# Altium footprint library PCB - RF FILTER - JOHANSON BP15 4PAD.PCBLIB: 1 footprints
Each footprint in its own frame and in the unit in brackets; x right, y up, seen from the top. Pads: shape width x height; smd on the part's side, far side on the other; paste and mask are expansions set on the pad; w line width, h text height; cw(c..) or ccw(c..) is an arc to the next point about the centre after c.
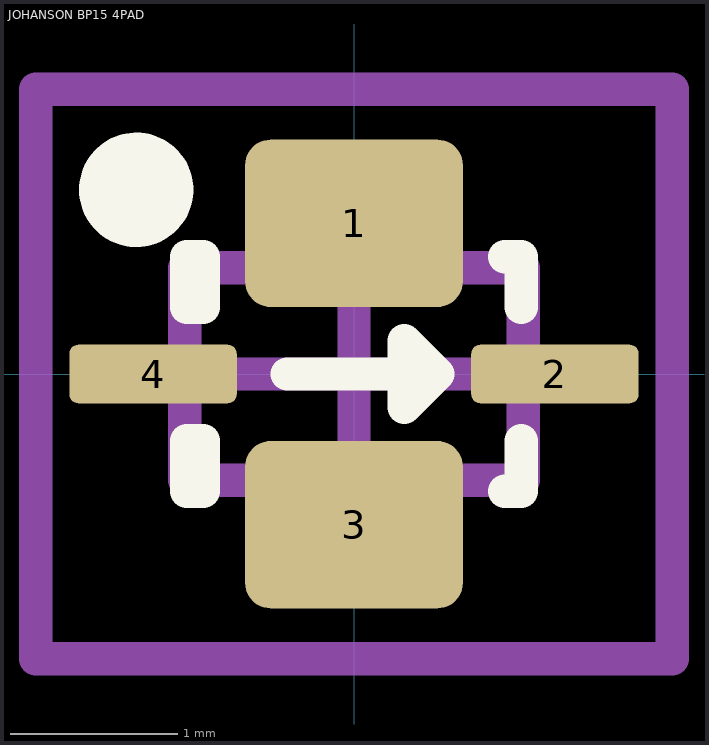
[diagram p0: the footprint, top view; thin cyan lines are the x and y axes]

## JOHANSON BP15 4PAD [mm] "Johanson RF Filter"
height 0.95
pads (4):
  rrect30% 1.3x1 smd: 1(0,0.9) 3(0,-0.9)
  rrect30% 1x0.35 smd: 2(1.2,0) 4(-1.2,0)
Top Overlay:
  circle w0.4: c-1.3,1.1 r0.141
  lines w0.2: -0.4,0 0.5,0 ; 0.9,-0.7 1,-0.7 1,-0.4 ; 0.9,0.7 1,0.7 1,0.4 ; 0.5,0 0.3,-0.2 0.3,0.2 0.5,0 ; -1,-0.7 -1,-0.4 -0.9,-0.4 -0.9,-0.7 -1,-0.7 ; -1,0.4 -0.9,0.4 -0.9,0.7 -1,0.7 -1,0.4
Mechanical 1:
  lines w0.2: -1.01,-0.635 1.01,-0.635 1.01,0.635 -1.01,0.635 -1.01,-0.635
Mechanical 15:
  lines w0.2: -1,0 1,0 ; 0,-1 0,1 ; -1.9,-1.7 -1.9,0 -1.9,1.7 1.9,1.7 1.9,-1.7 -1.9,-1.7
3D body "Johanson BP15 4 PAD.STEP": height 0.96, standoff -0.01, extent -1.01,-0.635 1.01,0.635